# EAGLE library part ATTINY4/5/8/10 (library SW_Microcontroller)
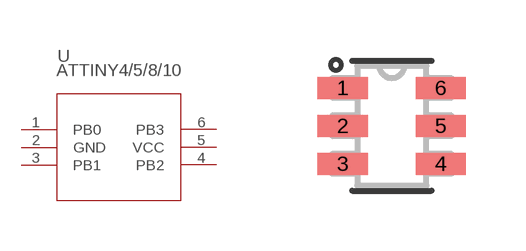
[diagram p10: symbol with the pads of SOT-23-6; footprint SOT-23-6]

Designator prefix U

## ATTINY4/5/8/10 (CATEGORY: Microcontroller; DESCRIPTION: AVR series Microcontroller IC 8-Bit 10MHz 1KB (512 x 16) FLASH SOT-23-6; MFGS: Microchip Technology; MPNS: ATTINY10-TS8R; PACKAGE: SOT23-6; PART_NUMBER: ATTINY10-TS; SW_PART_NUMBER: SW0007798)  [SOT-23-6]
1  PB0
2  GND  pwr
3  PB1
4  PB2
5  VCC  pwr
6  PB3

## Footprint SOT-23-6 (pad centres in mm)
smd 1.261 x 0.551: 1 -1.225,0.95; 2 -1.225,0; 3 -1.225,-0.95; 4 1.225,-0.95; 5 1.225,0; 6 1.225,0.95